# EAGLE library part MC14066BCP (library 326298_rev_a)
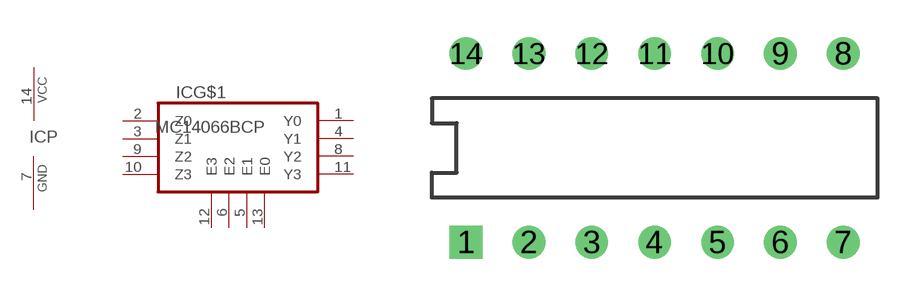
[diagram p16: symbol with the pads of DIL14; footprint DIL14]

Designator prefix IC; gates G$1=4066 P=PWRN

## MC14066BCP (RS: 662-2735)  [DIL14]
1  G$1:Y0  pas
2  G$1:Z0  pas
3  G$1:Z1  pas
4  G$1:Y1  pas
5  G$1:E1  in
6  G$1:E2  in
7  P:GND  pwr
8  G$1:Y2  pas
9  G$1:Z2  pas
10  G$1:Z3  pas
11  G$1:Y3  pas
12  G$1:E3  in
13  G$1:E0  in
14  P:VCC  pwr

## Footprint DIL14 (pad centres in mm)
Dual In Line Package
drill 0.813 square: 1 0,0
drill 0.813: 2 2.54,0; 3 5.08,0; 4 7.62,0; 5 10.16,0; 6 12.7,0; 7 15.24,0; 8 15.24,7.62; 9 12.7,7.62; 10 10.16,7.62; 11 7.62,7.62; 12 5.08,7.62; 13 2.54,7.62; 14 0,7.62